# Altium footprint library CONNECTORS.PcbLib: 52 footprints (part 4 of 4)
Each footprint in its own frame and in the unit in brackets; x right, y up, seen from the top. Pads: shape width x height; smd on the part's side, far side on the other; paste and mask are expansions set on the pad; w line width, h text height; cw(c..) or ccw(c..) is an arc to the next point about the centre after c.
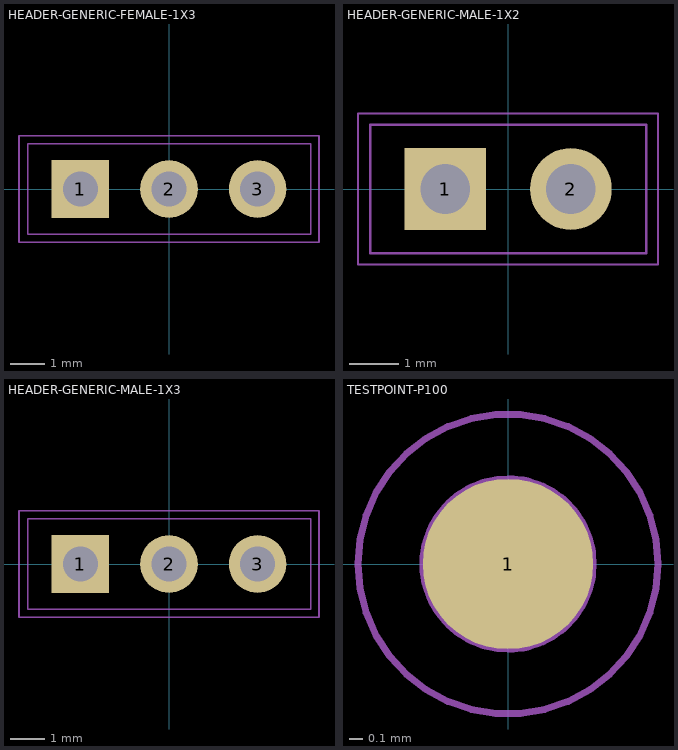
[diagram p3: the footprints below, top view; thin cyan lines are the x and y axes]

## HEADER-GENERIC-FEMALE-1X3 [mm] "HEADER-GENERIC-FEMALE-1X3"
pads (3):
  rect 1.65x1.65 hole 1: 1(-2.54,0)
  round 1.65 hole 1: 2(0,0) 3(2.54,0)
Top Courtyard:
  lines w0.05: -0.508,0 0,0 ; 0,-0.508 0,0 ; 0,0.508 0,0 ; 0.508,0 0,0 ; -4.3,-1.525 -4.3,1.525 4.3,1.525 4.3,-1.525 -4.3,-1.525
Top Assembly:
  lines w0.05: -0.965,-1.3 4.06,-1.3 4.06,1.3 -2.57,1.3 3.851,1.3 ; 0.838,-1.3 -2.57,-1.3 3.851,-1.3 ; 3.86,-1.3 -4.05,-1.3 -4.05,1.3 3.86,1.3 ; 4.06,-0.45 4.06,0.45
3D body "HEADER-FEMALE-1X3.STEP": height 8.51, standoff -3.19, extent -4.06,-1.27 4.06,1.27

## HEADER-GENERIC-MALE-1X2 [mm] "HEADER-GENERIC-MALE-1X2"
pads (2):
  rect 1.65x1.65 hole 1: 1(-1.27,0)
  round 1.65 hole 1: 2(1.27,0)
Top Courtyard:
  lines w0.05: 0.762,0 1.27,0 ; 1.27,-0.508 1.27,0 ; 1.27,0.508 1.27,0 ; 1.778,0 1.27,0 ; -3.03,-1.525 3.03,-1.525 3.03,1.525 -3.03,1.525 -3.03,-1.525
Top Assembly:
  lines w0.05: 0.305,-1.3 2.79,-1.3 2.79,1.3 -2.78,1.3 -2.78,-1.3 2.108,-1.3 ; 2.79,-0.45 2.79,0.45
3D body "TSW-102-07-F-S.stp": height 8.39, standoff -2.53, extent -2.54,-1.27 2.667,1.27

## HEADER-GENERIC-MALE-1X3 [mm] "HEADER-GENERIC-MALE-1X3"
pads (3):
  rect 1.65x1.65 hole 1: 1(-2.54,0)
  round 1.65 hole 1: 2(0,0) 3(2.54,0)
Top Courtyard:
  lines w0.05: -0.508,0 0,0 ; 0,-0.508 0,0 ; 0,0.508 0,0 ; 0.508,0 0,0 ; -4.3,-1.525 -4.3,1.525 4.3,1.525 4.3,-1.525 -4.3,-1.525
Top Assembly:
  lines w0.05: -0.965,-1.3 4.06,-1.3 4.06,1.3 -2.57,1.3 3.851,1.3 ; 0.838,-1.3 -2.57,-1.3 3.851,-1.3 ; 3.86,-1.3 -4.05,-1.3 -4.05,1.3 3.86,1.3 ; 4.06,-0.45 4.06,0.45
3D body "HEADER-FEMALE-1X3.STEP": height 8.51, standoff -3.19, extent -4.06,-1.27 4.06,1.27

## TESTPOINT-P100 [mm] "TESTPOINT TARGET, P100"
pads (1):
  round 1.25 smd paste-1 mask+0.05: 1(0,0)
Top Courtyard:
  circle w0.05: c0,0 r1.1
  lines w0.05: -0.25,0 0,0 ; 0,-0.25 0,0 ; 0,0.25 0,0 ; 0.25,0 0,0
Top Assembly:
  circle w0.4: c0,0 r0.45
  text "P100" at -0.275,-0.275 h0.2